# Altium schematic symbol library Integrated_Library1.SCHLIB: 1 symbol
Pins are listed as number, name and electrical type; pins without a type are passive.

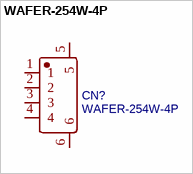
[diagram p0: symbol WAFER-254W-4P]

## WAFER-254W-4P
designator CN?
BOM_Manufacturer: XUNPU(讯普); Contributor: LCSC; BOM_Supplier: LCSC; BOM_Supplier Part: C2856745; BOM_Manufacturer Part: WAFER-254W-4P; BOM_JLCPCB Part Class: Extended Part; spicePre: C; spiceSymbolName: WAFER-254W-4P
footprint CONN-SMD_4P-P2.50-WAFER-254W-4P
pins: 1, 2, 3, 4, 5, 6